# Altium footprint library con-phoenix-350.PCBLIB: 23 footprints (part 2 of 2)
Each footprint in its own frame and in the unit in brackets; x right, y up, seen from the top. Pads: shape width x height; smd on the part's side, far side on the other; paste and mask are expansions set on the pad; w line width, h text height; cw(c..) or ccw(c..) is an arc to the next point about the centre after c.
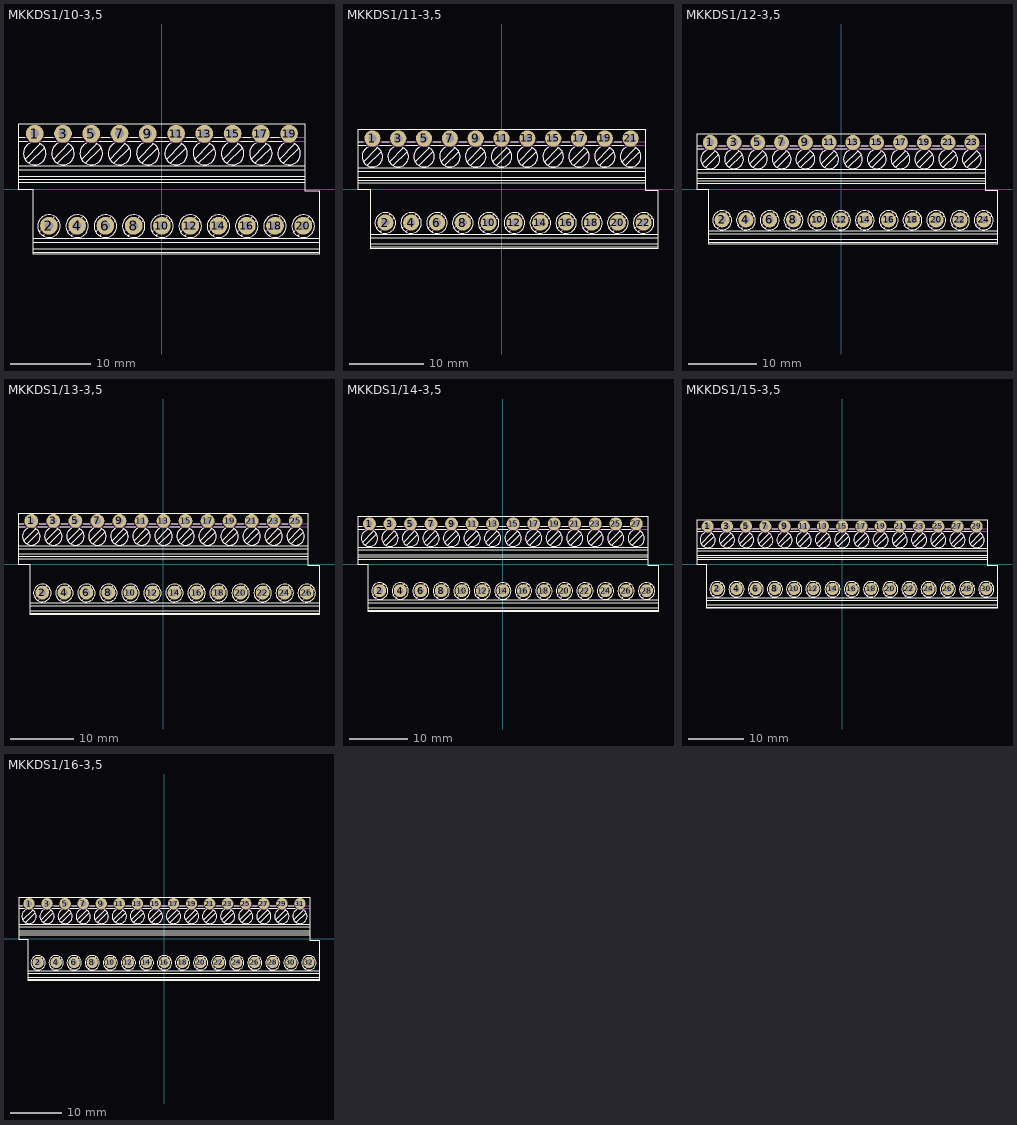
[diagram p1: the footprints below, top view; thin cyan lines are the x and y axes]

## MKKDS1/10-3,5 [mm]
pads (20):
  round 2.2 hole 1.1: 1(-15.75,6.85) 2(-14,-4.55) 3(-12.25,6.85) 4(-10.5,-4.55) 5(-8.75,6.85) 6(-7,-4.55) 7(-5.25,6.85) 8(-3.5,-4.55) 9(-1.75,6.85) 10(0,-4.55) 11(1.75,6.85) 12(3.5,-4.55) 13(5.25,6.85) 14(7,-4.55) 15(8.75,6.85) 16(10.5,-4.55) 17(12.25,6.85) 18(14,-4.55) 19(15.75,6.85) 20(17.5,-4.55)
Top Overlay:
  circle w0.102: c-14,-4.6 r1.401
  circle w0.102: c-10.5,-4.6 r1.401
  circle w0.102: c-7,-4.6 r1.401
  circle w0.102: c-3.5,-4.6 r1.401
  circle w0.102: c0,-4.6 r1.401
  circle w0.102: c3.5,-4.6 r1.401
  circle w0.102: c7,-4.6 r1.401
  circle w0.102: c10.5,-4.6 r1.401
  circle w0.102: c14,-4.6 r1.401
  circle w0.102: c17.5,-4.6 r1.401
  lines w0.102: -17.675,5.925 -16.675,5.925 ; -17.675,6.4 -16.975,6.4 ; -17.65,0.85 17.675,0.85 ; -17.65,1.15 17.675,1.15 ; -17.65,1.6 17.675,1.6 ; -17.65,2.4 17.675,2.4 ; -17.65,2.875 17.675,2.875 ; -16.925,3.7 -15.075,5.575 ; -16.425,3.225 -14.55,5.075 ; -16.325,5.675 ccw(c-15.752,4.398) -15.125,5.65 ; -15.9,-7.85 19.425,-7.85 ; -15.9,-7.425 19.425,-7.425 ; -15.9,-6.6 19.425,-6.6 ; -15.9,-6.125 19.425,-6.125 ; -15.175,-5.3 -15.075,-5.2 ; -14.75,5.925 -13.175,5.925 ; -14.675,-5.775 -14.575,-5.675 ; -14.5,6.4 -13.475,6.4 ; -13.425,3.7 -11.575,5.575 ; -13.4,-3.5 -13.325,-3.425 ; -12.925,3.225 -11.05,5.075 ; -12.875,-4 -12.8,-3.925 ; -12.825,5.675 ccw(c-12.252,4.399) -11.625,5.65 ; -11.675,-5.3 -11.575,-5.2 ; -11.25,5.925 -9.675,5.925 ; -11.175,-5.775 -11.075,-5.675 ; -11,6.4 -9.975,6.4 ; -9.925,3.7 -8.075,5.575 ; -9.9,-3.5 -9.825,-3.425 ; -9.425,3.225 -7.55,5.075 ; -9.375,-4 -9.3,-3.925 ; -9.325,5.675 ccw(c-8.752,4.398) -8.125,5.65 ; -8.175,-5.3 -8.075,-5.2 ; -7.75,5.925 -6.175,5.925 ; -7.675,-5.775 -7.575,-5.675 ; -7.5,6.4 -6.475,6.4 ; -6.425,3.7 -4.575,5.575 ; -6.4,-3.5 -6.325,-3.425 ; -5.925,3.225 -4.05,5.075 ; -5.875,-4 -5.8,-3.925 ; -5.825,5.675 ccw(c-5.252,4.399) -4.625,5.65 ; -4.675,-5.3 -4.575,-5.2 ; -4.25,5.925 -2.675,5.925 ; -4.175,-5.775 -4.075,-5.675 ; -4,6.4 -2.975,6.4 ; -2.925,3.7 -1.075,5.575 ; -2.9,-3.5 -2.825,-3.425 ; -2.425,3.225 -0.55,5.075 ; -2.375,-4 -2.3,-3.925 ; -2.325,5.675 ccw(c-1.752,4.398) -1.125,5.65 ; -1.175,-5.3 -1.075,-5.2 ; -0.75,5.925 0.825,5.925 ; -0.675,-5.775 -0.575,-5.675 ; -0.5,6.4 0.525,6.4 ; 0.575,3.7 2.425,5.575 ; 0.6,-3.5 0.675,-3.425 ; 1.075,3.225 2.95,5.075 ; 1.125,-4 1.2,-3.925 ; 1.175,5.675 ccw(c1.748,4.399) 2.375,5.65 ; 2.325,-5.3 2.425,-5.2 ; 2.75,5.925 4.325,5.925 ; 2.825,-5.775 2.925,-5.675 ; 3,6.4 4.025,6.4 ; 4.075,3.7 5.925,5.575 ; 4.1,-3.5 4.175,-3.425 ; 4.575,3.225 6.45,5.075 ; 4.625,-4 4.7,-3.925 ; 4.675,5.675 ccw(c5.249,4.399) 5.875,5.65 ; 5.825,-5.3 5.925,-5.2 ; 6.25,5.925 7.825,5.925 ; 6.325,-5.775 6.425,-5.675 ; 6.5,6.4 7.525,6.4 ; 7.575,3.7 9.425,5.575 ; 7.6,-3.5 7.675,-3.425 ; 8.075,3.225 9.95,5.075 ; 8.125,-4 8.2,-3.925 ; 8.175,5.675 ccw(c8.748,4.399) 9.375,5.65 ; 9.325,-5.3 9.425,-5.2 ; 9.75,5.925 11.325,5.925 ; 9.825,-5.775 9.925,-5.675 ; 10,6.4 11.025,6.4 ; 11.075,3.7 12.925,5.575 ; 11.1,-3.5 11.175,-3.425 ; 11.575,3.225 13.45,5.075 ; 11.625,-4 11.7,-3.925 ; 11.675,5.675 ccw(c12.249,4.399) 12.875,5.65 ; 12.825,-5.3 12.925,-5.2 ; 13.25,5.925 14.825,5.925 ; 13.325,-5.775 13.425,-5.675 ; 13.5,6.4 14.525,6.4 ; 14.575,3.7 16.425,5.575 ; 14.6,-3.5 14.675,-3.425 ; 15.075,3.225 16.95,5.075 ; 15.125,-4 15.2,-3.925 ; 15.175,5.675 ccw(c15.749,4.398) 16.375,5.65 ; 16.325,-5.3 16.425,-5.2 ; 16.825,-5.775 16.925,-5.675 ; 18.1,-3.5 18.175,-3.425 ; 18.625,-4 18.7,-3.925 ; -17.7,-0.1 -17.7,8.1 17.7,8.1 17.7,-0.2 19.45,-0.2 19.45,-8.1 -15.95,-8.1 -15.95,-0.1 -17.7,-0.1
Mechanical 16:
  circle w0.102: c-15.75,4.4 r1.401
  circle w0.102: c-12.25,4.4 r1.401
  circle w0.102: c-8.75,4.4 r1.401
  circle w0.102: c-5.25,4.4 r1.401
  circle w0.102: c-1.75,4.4 r1.401
  circle w0.102: c1.75,4.4 r1.401
  circle w0.102: c5.25,4.4 r1.401
  circle w0.102: c8.75,4.4 r1.401
  circle w0.102: c12.25,4.4 r1.401
  circle w0.102: c15.75,4.4 r1.401
  lines w0.102: -17.675,5.925 17.65,5.925 ; -17.675,6.4 17.65,6.4 ; -15.175,-5.3 -13.325,-3.425 ; -14.675,-5.775 -12.8,-3.925 ; -11.675,-5.3 -9.825,-3.425 ; -11.175,-5.775 -9.3,-3.925 ; -8.175,-5.3 -6.325,-3.425 ; -7.675,-5.775 -5.8,-3.925 ; -4.675,-5.3 -2.825,-3.425 ; -4.175,-5.775 -2.3,-3.925 ; -1.175,-5.3 0.675,-3.425 ; -0.675,-5.775 1.2,-3.925 ; 2.325,-5.3 4.175,-3.425 ; 2.825,-5.775 4.7,-3.925 ; 5.825,-5.3 7.675,-3.425 ; 6.325,-5.775 8.2,-3.925 ; 9.325,-5.3 11.175,-3.425 ; 9.825,-5.775 11.7,-3.925 ; 12.825,-5.3 14.675,-3.425 ; 13.325,-5.775 15.2,-3.925 ; 16.325,-5.3 18.175,-3.425 ; 16.825,-5.775 18.7,-3.925

## MKKDS1/11-3,5 [mm]
pads (22):
  round 2.2 hole 1.1: 1(-17.5,6.85) 2(-15.75,-4.55) 3(-14,6.85) 4(-12.25,-4.55) 5(-10.5,6.85) 6(-8.75,-4.55) 7(-7,6.85) 8(-5.25,-4.55) 9(-3.5,6.85) 10(-1.75,-4.55) 11(0,6.85) 12(1.75,-4.55) 13(3.5,6.85) 14(5.25,-4.55) 15(7,6.85) 16(8.75,-4.55) 17(10.5,6.85) 18(12.25,-4.55) 19(14,6.85) 20(15.75,-4.55) 21(17.5,6.85) 22(19.25,-4.55)
Top Overlay:
  circle w0.102: c-15.75,-4.6 r1.401
  circle w0.102: c-12.25,-4.6 r1.401
  circle w0.102: c-8.75,-4.6 r1.401
  circle w0.102: c-5.25,-4.6 r1.401
  circle w0.102: c-1.75,-4.6 r1.401
  circle w0.102: c1.75,-4.6 r1.401
  circle w0.102: c5.25,-4.6 r1.401
  circle w0.102: c8.75,-4.6 r1.401
  circle w0.102: c12.25,-4.6 r1.401
  circle w0.102: c15.75,-4.6 r1.401
  circle w0.102: c19.25,-4.6 r1.401
  lines w0.102: -19.425,5.925 -18.425,5.925 ; -19.425,6.4 -18.725,6.4 ; -19.4,0.85 19.425,0.85 ; -19.4,1.15 19.425,1.15 ; -19.4,1.6 19.425,1.6 ; -19.4,2.4 19.425,2.4 ; -19.4,2.875 19.425,2.875 ; -18.675,3.7 -16.825,5.575 ; -18.175,3.225 -16.3,5.075 ; -18.075,5.675 ccw(c-17.501,4.399) -16.875,5.65 ; -17.65,-7.85 21.175,-7.85 ; -17.65,-7.425 21.175,-7.425 ; -17.65,-6.6 21.175,-6.6 ; -17.65,-6.125 21.175,-6.125 ; -16.925,-5.3 -16.825,-5.2 ; -16.5,5.925 -14.925,5.925 ; -16.425,-5.775 -16.325,-5.675 ; -16.25,6.4 -15.225,6.4 ; -15.175,3.7 -13.325,5.575 ; -15.15,-3.5 -15.075,-3.425 ; -14.675,3.225 -12.8,5.075 ; -14.625,-4 -14.55,-3.925 ; -14.575,5.675 ccw(c-14.001,4.398) -13.375,5.65 ; -13.425,-5.3 -13.325,-5.2 ; -13,5.925 -11.425,5.925 ; -12.925,-5.775 -12.825,-5.675 ; -12.75,6.4 -11.725,6.4 ; -11.675,3.7 -9.825,5.575 ; -11.65,-3.5 -11.575,-3.425 ; -11.175,3.225 -9.3,5.075 ; -11.125,-4 -11.05,-3.925 ; -11.075,5.675 ccw(c-10.501,4.399) -9.875,5.65 ; -9.925,-5.3 -9.825,-5.2 ; -9.5,5.925 -7.925,5.925 ; -9.425,-5.775 -9.325,-5.675 ; -9.25,6.4 -8.225,6.4 ; -8.175,3.7 -6.325,5.575 ; -8.15,-3.5 -8.075,-3.425 ; -7.675,3.225 -5.8,5.075 ; -7.625,-4 -7.55,-3.925 ; -7.575,5.675 ccw(c-7.001,4.398) -6.375,5.65 ; -6.425,-5.3 -6.325,-5.2 ; -6,5.925 -4.425,5.925 ; -5.925,-5.775 -5.825,-5.675 ; -5.75,6.4 -4.725,6.4 ; -4.675,3.7 -2.825,5.575 ; -4.65,-3.5 -4.575,-3.425 ; -4.175,3.225 -2.3,5.075 ; -4.125,-4 -4.05,-3.925 ; -4.075,5.675 ccw(c-3.501,4.399) -2.875,5.65 ; -2.925,-5.3 -2.825,-5.2 ; -2.5,5.925 -0.925,5.925 ; -2.425,-5.775 -2.325,-5.675 ; -2.25,6.4 -1.225,6.4 ; -1.175,3.7 0.675,5.575 ; -1.15,-3.5 -1.075,-3.425 ; -0.675,3.225 1.2,5.075 ; -0.625,-4 -0.55,-3.925 ; -0.575,5.675 ccw(c-0.001,4.398) 0.625,5.65 ; 0.575,-5.3 0.675,-5.2 ; 1,5.925 2.575,5.925 ; 1.075,-5.775 1.175,-5.675 ; 1.25,6.4 2.275,6.4 ; 2.325,3.7 4.175,5.575 ; 2.35,-3.5 2.425,-3.425 ; 2.825,3.225 4.7,5.075 ; 2.875,-4 2.95,-3.925 ; 2.925,5.675 ccw(c3.499,4.399) 4.125,5.65 ; 4.075,-5.3 4.175,-5.2 ; 4.5,5.925 6.075,5.925 ; 4.575,-5.775 4.675,-5.675 ; 4.75,6.4 5.775,6.4 ; 5.825,3.7 7.675,5.575 ; 5.85,-3.5 5.925,-3.425 ; 6.325,3.225 8.2,5.075 ; 6.375,-4 6.45,-3.925 ; 6.425,5.675 ccw(c6.999,4.398) 7.625,5.65 ; 7.575,-5.3 7.675,-5.2 ; 8,5.925 9.575,5.925 ; 8.075,-5.775 8.175,-5.675 ; 8.25,6.4 9.275,6.4 ; 9.325,3.7 11.175,5.575 ; 9.35,-3.5 9.425,-3.425 ; 9.825,3.225 11.7,5.075 ; 9.875,-4 9.95,-3.925 ; 9.925,5.675 ccw(c10.499,4.399) 11.125,5.65 ; 11.075,-5.3 11.175,-5.2 ; 11.5,5.925 13.075,5.925 ; 11.575,-5.775 11.675,-5.675 ; 11.75,6.4 12.775,6.4 ; 12.825,3.7 14.675,5.575 ; 12.85,-3.5 12.925,-3.425 ; 13.325,3.225 15.2,5.075 ; 13.375,-4 13.45,-3.925 ; 13.425,5.675 ccw(c13.999,4.398) 14.625,5.65 ; 14.575,-5.3 14.675,-5.2 ; 15,5.925 16.575,5.925 ; 15.075,-5.775 15.175,-5.675 ; 15.25,6.4 16.275,6.4 ; 16.325,3.7 18.175,5.575 ; 16.35,-3.5 16.425,-3.425 ; 16.825,3.225 18.7,5.075 ; 16.875,-4 16.95,-3.925 ; 16.925,5.675 ccw(c17.498,4.399) 18.125,5.65 ; 18.075,-5.3 18.175,-5.2 ; 18.575,-5.775 18.675,-5.675 ; 19.85,-3.5 19.925,-3.425 ; 20.375,-4 20.45,-3.925 ; -19.45,-0.1 -19.45,8.1 19.45,8.1 19.45,-0.2 21.2,-0.2 21.2,-8.1 -17.7,-8.1 -17.7,-0.1 -19.45,-0.1
Mechanical 16:
  circle w0.102: c-17.5,4.4 r1.401
  circle w0.102: c-14,4.4 r1.401
  circle w0.102: c-10.5,4.4 r1.401
  circle w0.102: c-7,4.4 r1.401
  circle w0.102: c-3.5,4.4 r1.401
  circle w0.102: c0,4.4 r1.401
  circle w0.102: c3.5,4.4 r1.401
  circle w0.102: c7,4.4 r1.401
  circle w0.102: c10.5,4.4 r1.401
  circle w0.102: c14,4.4 r1.401
  circle w0.102: c17.5,4.4 r1.401
  lines w0.102: -19.425,5.925 19.4,5.925 ; -19.425,6.4 19.4,6.4 ; -16.925,-5.3 -15.075,-3.425 ; -16.425,-5.775 -14.55,-3.925 ; -13.425,-5.3 -11.575,-3.425 ; -12.925,-5.775 -11.05,-3.925 ; -9.925,-5.3 -8.075,-3.425 ; -9.425,-5.775 -7.55,-3.925 ; -6.425,-5.3 -4.575,-3.425 ; -5.925,-5.775 -4.05,-3.925 ; -2.925,-5.3 -1.075,-3.425 ; -2.425,-5.775 -0.55,-3.925 ; 0.575,-5.3 2.425,-3.425 ; 1.075,-5.775 2.95,-3.925 ; 4.075,-5.3 5.925,-3.425 ; 4.575,-5.775 6.45,-3.925 ; 7.575,-5.3 9.425,-3.425 ; 8.075,-5.775 9.95,-3.925 ; 11.075,-5.3 12.925,-3.425 ; 11.575,-5.775 13.45,-3.925 ; 14.575,-5.3 16.425,-3.425 ; 15.075,-5.775 16.95,-3.925 ; 18.075,-5.3 19.925,-3.425 ; 18.575,-5.775 20.45,-3.925

## MKKDS1/12-3,5 [mm]
pads (24):
  round 2.2 hole 1.1: 1(-19.25,6.85) 2(-17.5,-4.55) 3(-15.75,6.85) 4(-14,-4.55) 5(-12.25,6.85) 6(-10.5,-4.55) 7(-8.75,6.85) 8(-7,-4.55) 9(-5.25,6.85) 10(-3.5,-4.55) 11(-1.75,6.85) 12(0,-4.55) 13(1.75,6.85) 14(3.5,-4.55) 15(5.25,6.85) 16(7,-4.55) 17(8.75,6.85) 18(10.5,-4.55) 19(12.25,6.85) 20(14,-4.55) 21(15.75,6.85) 22(17.5,-4.55) 23(19.25,6.85) 24(21,-4.55)
Top Overlay:
  circle w0.102: c-17.5,-4.6 r1.401
  circle w0.102: c-14,-4.6 r1.401
  circle w0.102: c-10.5,-4.6 r1.401
  circle w0.102: c-7,-4.6 r1.401
  circle w0.102: c-3.5,-4.6 r1.401
  circle w0.102: c0,-4.6 r1.401
  circle w0.102: c3.5,-4.6 r1.401
  circle w0.102: c7,-4.6 r1.401
  circle w0.102: c10.5,-4.6 r1.401
  circle w0.102: c14,-4.6 r1.401
  circle w0.102: c17.5,-4.6 r1.401
  circle w0.102: c21,-4.6 r1.401
  lines w0.102: -21.175,5.925 -20.175,5.925 ; -21.175,6.4 -20.475,6.4 ; -21.15,0.85 21.175,0.85 ; -21.15,1.15 21.175,1.15 ; -21.15,1.6 21.175,1.6 ; -21.15,2.4 21.175,2.4 ; -21.15,2.875 21.175,2.875 ; -20.425,3.7 -18.575,5.575 ; -19.925,3.225 -18.05,5.075 ; -19.825,5.675 ccw(c-19.251,4.399) -18.625,5.65 ; -19.4,-7.85 22.925,-7.85 ; -19.4,-7.425 22.925,-7.425 ; -19.4,-6.6 22.925,-6.6 ; -19.4,-6.125 22.925,-6.125 ; -18.675,-5.3 -18.575,-5.2 ; -18.25,5.925 -16.675,5.925 ; -18.175,-5.775 -18.075,-5.675 ; -18,6.4 -16.975,6.4 ; -16.925,3.7 -15.075,5.575 ; -16.9,-3.5 -16.825,-3.425 ; -16.425,3.225 -14.55,5.075 ; -16.375,-4 -16.3,-3.925 ; -16.325,5.675 ccw(c-15.752,4.398) -15.125,5.65 ; -15.175,-5.3 -15.075,-5.2 ; -14.75,5.925 -13.175,5.925 ; -14.675,-5.775 -14.575,-5.675 ; -14.5,6.4 -13.475,6.4 ; -13.425,3.7 -11.575,5.575 ; -13.4,-3.5 -13.325,-3.425 ; -12.925,3.225 -11.05,5.075 ; -12.875,-4 -12.8,-3.925 ; -12.825,5.675 ccw(c-12.252,4.399) -11.625,5.65 ; -11.675,-5.3 -11.575,-5.2 ; -11.25,5.925 -9.675,5.925 ; -11.175,-5.775 -11.075,-5.675 ; -11,6.4 -9.975,6.4 ; -9.925,3.7 -8.075,5.575 ; -9.9,-3.5 -9.825,-3.425 ; -9.425,3.225 -7.55,5.075 ; -9.375,-4 -9.3,-3.925 ; -9.325,5.675 ccw(c-8.752,4.398) -8.125,5.65 ; -8.175,-5.3 -8.075,-5.2 ; -7.75,5.925 -6.175,5.925 ; -7.675,-5.775 -7.575,-5.675 ; -7.5,6.4 -6.475,6.4 ; -6.425,3.7 -4.575,5.575 ; -6.4,-3.5 -6.325,-3.425 ; -5.925,3.225 -4.05,5.075 ; -5.875,-4 -5.8,-3.925 ; -5.825,5.675 ccw(c-5.252,4.399) -4.625,5.65 ; -4.675,-5.3 -4.575,-5.2 ; -4.25,5.925 -2.675,5.925 ; -4.175,-5.775 -4.075,-5.675 ; -4,6.4 -2.975,6.4 ; -2.925,3.7 -1.075,5.575 ; -2.9,-3.5 -2.825,-3.425 ; -2.425,3.225 -0.55,5.075 ; -2.375,-4 -2.3,-3.925 ; -2.325,5.675 ccw(c-1.752,4.398) -1.125,5.65 ; -1.175,-5.3 -1.075,-5.2 ; -0.75,5.925 0.825,5.925 ; -0.675,-5.775 -0.575,-5.675 ; -0.5,6.4 0.525,6.4 ; 0.575,3.7 2.425,5.575 ; 0.6,-3.5 0.675,-3.425 ; 1.075,3.225 2.95,5.075 ; 1.125,-4 1.2,-3.925 ; 1.175,5.675 ccw(c1.748,4.399) 2.375,5.65 ; 2.325,-5.3 2.425,-5.2 ; 2.75,5.925 4.325,5.925 ; 2.825,-5.775 2.925,-5.675 ; 3,6.4 4.025,6.4 ; 4.075,3.7 5.925,5.575 ; 4.1,-3.5 4.175,-3.425 ; 4.575,3.225 6.45,5.075 ; 4.625,-4 4.7,-3.925 ; 4.675,5.675 ccw(c5.249,4.399) 5.875,5.65 ; 5.825,-5.3 5.925,-5.2 ; 6.25,5.925 7.825,5.925 ; 6.325,-5.775 6.425,-5.675 ; 6.5,6.4 7.525,6.4 ; 7.575,3.7 9.425,5.575 ; 7.6,-3.5 7.675,-3.425 ; 8.075,3.225 9.95,5.075 ; 8.125,-4 8.2,-3.925 ; 8.175,5.675 ccw(c8.748,4.399) 9.375,5.65 ; 9.325,-5.3 9.425,-5.2 ; 9.75,5.925 11.325,5.925 ; 9.825,-5.775 9.925,-5.675 ; 10,6.4 11.025,6.4 ; 11.075,3.7 12.925,5.575 ; 11.1,-3.5 11.175,-3.425 ; 11.575,3.225 13.45,5.075 ; 11.625,-4 11.7,-3.925 ; 11.675,5.675 ccw(c12.249,4.399) 12.875,5.65 ; 12.825,-5.3 12.925,-5.2 ; 13.25,5.925 14.825,5.925 ; 13.325,-5.775 13.425,-5.675 ; 13.5,6.4 14.525,6.4 ; 14.575,3.7 16.425,5.575 ; 14.6,-3.5 14.675,-3.425 ; 15.075,3.225 16.95,5.075 ; 15.125,-4 15.2,-3.925 ; 15.175,5.675 ccw(c15.749,4.398) 16.375,5.65 ; 16.325,-5.3 16.425,-5.2 ; 16.75,5.925 18.325,5.925 ; 16.825,-5.775 16.925,-5.675 ; 17,6.4 18.025,6.4 ; 18.075,3.7 19.925,5.575 ; 18.1,-3.5 18.175,-3.425 ; 18.575,3.225 20.45,5.075 ; 18.625,-4 18.7,-3.925 ; 18.675,5.675 ccw(c19.249,4.399) 19.875,5.65 ; 19.825,-5.3 19.925,-5.2 ; 20.325,-5.775 20.425,-5.675 ; 21.6,-3.5 21.675,-3.425 ; 22.125,-4 22.2,-3.925 ; -21.2,-0.1 -21.2,8.1 21.2,8.1 21.2,-0.2 22.95,-0.2 22.95,-8.1 -19.45,-8.1 -19.45,-0.1 -21.2,-0.1
Mechanical 16:
  circle w0.102: c-19.25,4.4 r1.401
  circle w0.102: c-15.75,4.4 r1.401
  circle w0.102: c-12.25,4.4 r1.401
  circle w0.102: c-8.75,4.4 r1.401
  circle w0.102: c-5.25,4.4 r1.401
  circle w0.102: c-1.75,4.4 r1.401
  circle w0.102: c1.75,4.4 r1.401
  circle w0.102: c5.25,4.4 r1.401
  circle w0.102: c8.75,4.4 r1.401
  circle w0.102: c12.25,4.4 r1.401
  circle w0.102: c15.75,4.4 r1.401
  circle w0.102: c19.25,4.4 r1.401
  lines w0.102: -21.175,5.925 21.15,5.925 ; -21.175,6.4 21.15,6.4 ; -18.675,-5.3 -16.825,-3.425 ; -18.175,-5.775 -16.3,-3.925 ; -15.175,-5.3 -13.325,-3.425 ; -14.675,-5.775 -12.8,-3.925 ; -11.675,-5.3 -9.825,-3.425 ; -11.175,-5.775 -9.3,-3.925 ; -8.175,-5.3 -6.325,-3.425 ; -7.675,-5.775 -5.8,-3.925 ; -4.675,-5.3 -2.825,-3.425 ; -4.175,-5.775 -2.3,-3.925 ; -1.175,-5.3 0.675,-3.425 ; -0.675,-5.775 1.2,-3.925 ; 2.325,-5.3 4.175,-3.425 ; 2.825,-5.775 4.7,-3.925 ; 5.825,-5.3 7.675,-3.425 ; 6.325,-5.775 8.2,-3.925 ; 9.325,-5.3 11.175,-3.425 ; 9.825,-5.775 11.7,-3.925 ; 12.825,-5.3 14.675,-3.425 ; 13.325,-5.775 15.2,-3.925 ; 16.325,-5.3 18.175,-3.425 ; 16.825,-5.775 18.7,-3.925 ; 19.825,-5.3 21.675,-3.425 ; 20.325,-5.775 22.2,-3.925

## MKKDS1/13-3,5 [mm]
pads (26):
  round 2.2 hole 1.1: 1(-21,6.85) 2(-19.25,-4.55) 3(-17.5,6.85) 4(-15.75,-4.55) 5(-14,6.85) 6(-12.25,-4.55) 7(-10.5,6.85) 8(-8.75,-4.55) 9(-7,6.85) 10(-5.25,-4.55) 11(-3.5,6.85) 12(-1.75,-4.55) 13(0,6.85) 14(1.75,-4.55) 15(3.5,6.85) 16(5.25,-4.55) 17(7,6.85) 18(8.75,-4.55) 19(10.5,6.85) 20(12.25,-4.55) 21(14,6.85) 22(15.75,-4.55) 23(17.5,6.85) 24(19.25,-4.55) 25(21,6.85) 26(22.75,-4.55)
Top Overlay:
  circle w0.102: c-19.25,-4.6 r1.401
  circle w0.102: c-15.75,-4.6 r1.401
  circle w0.102: c-12.25,-4.6 r1.401
  circle w0.102: c-8.75,-4.6 r1.401
  circle w0.102: c-5.25,-4.6 r1.401
  circle w0.102: c-1.75,-4.6 r1.401
  circle w0.102: c1.75,-4.6 r1.401
  circle w0.102: c5.25,-4.6 r1.401
  circle w0.102: c8.75,-4.6 r1.401
  circle w0.102: c12.25,-4.6 r1.401
  circle w0.102: c15.75,-4.6 r1.401
  circle w0.102: c19.25,-4.6 r1.401
  circle w0.102: c22.75,-4.6 r1.401
  lines w0.102: -22.925,5.925 -21.925,5.925 ; -22.925,6.4 -22.225,6.4 ; -22.9,0.85 22.925,0.85 ; -22.9,1.15 22.925,1.15 ; -22.9,1.6 22.925,1.6 ; -22.9,2.4 22.925,2.4 ; -22.9,2.875 22.925,2.875 ; -22.175,3.7 -20.325,5.575 ; -21.675,3.225 -19.8,5.075 ; -21.575,5.675 ccw(c-21.002,4.399) -20.375,5.65 ; -21.15,-7.85 24.675,-7.85 ; -21.15,-7.425 24.675,-7.425 ; -21.15,-6.6 24.675,-6.6 ; -21.15,-6.125 24.675,-6.125 ; -20.425,-5.3 -20.325,-5.2 ; -20,5.925 -18.425,5.925 ; -19.925,-5.775 -19.825,-5.675 ; -19.75,6.4 -18.725,6.4 ; -18.675,3.7 -16.825,5.575 ; -18.65,-3.5 -18.575,-3.425 ; -18.175,3.225 -16.3,5.075 ; -18.125,-4 -18.05,-3.925 ; -18.075,5.675 ccw(c-17.501,4.399) -16.875,5.65 ; -16.925,-5.3 -16.825,-5.2 ; -16.5,5.925 -14.925,5.925 ; -16.425,-5.775 -16.325,-5.675 ; -16.25,6.4 -15.225,6.4 ; -15.175,3.7 -13.325,5.575 ; -15.15,-3.5 -15.075,-3.425 ; -14.675,3.225 -12.8,5.075 ; -14.625,-4 -14.55,-3.925 ; -14.575,5.675 ccw(c-14.001,4.398) -13.375,5.65 ; -13.425,-5.3 -13.325,-5.2 ; -13,5.925 -11.425,5.925 ; -12.925,-5.775 -12.825,-5.675 ; -12.75,6.4 -11.725,6.4 ; -11.675,3.7 -9.825,5.575 ; -11.65,-3.5 -11.575,-3.425 ; -11.175,3.225 -9.3,5.075 ; -11.125,-4 -11.05,-3.925 ; -11.075,5.675 ccw(c-10.501,4.399) -9.875,5.65 ; -9.925,-5.3 -9.825,-5.2 ; -9.5,5.925 -7.925,5.925 ; -9.425,-5.775 -9.325,-5.675 ; -9.25,6.4 -8.225,6.4 ; -8.175,3.7 -6.325,5.575 ; -8.15,-3.5 -8.075,-3.425 ; -7.675,3.225 -5.8,5.075 ; -7.625,-4 -7.55,-3.925 ; -7.575,5.675 ccw(c-7.001,4.398) -6.375,5.65 ; -6.425,-5.3 -6.325,-5.2 ; -6,5.925 -4.425,5.925 ; -5.925,-5.775 -5.825,-5.675 ; -5.75,6.4 -4.725,6.4 ; -4.675,3.7 -2.825,5.575 ; -4.65,-3.5 -4.575,-3.425 ; -4.175,3.225 -2.3,5.075 ; -4.125,-4 -4.05,-3.925 ; -4.075,5.675 ccw(c-3.501,4.399) -2.875,5.65 ; -2.925,-5.3 -2.825,-5.2 ; -2.5,5.925 -0.925,5.925 ; -2.425,-5.775 -2.325,-5.675 ; -2.25,6.4 -1.225,6.4 ; -1.175,3.7 0.675,5.575 ; -1.15,-3.5 -1.075,-3.425 ; -0.675,3.225 1.2,5.075 ; -0.625,-4 -0.55,-3.925 ; -0.575,5.675 ccw(c-0.001,4.398) 0.625,5.65 ; 0.575,-5.3 0.675,-5.2 ; 1,5.925 2.575,5.925 ; 1.075,-5.775 1.175,-5.675 ; 1.25,6.4 2.275,6.4 ; 2.325,3.7 4.175,5.575 ; 2.35,-3.5 2.425,-3.425 ; 2.825,3.225 4.7,5.075 ; 2.875,-4 2.95,-3.925 ; 2.925,5.675 ccw(c3.499,4.399) 4.125,5.65 ; 4.075,-5.3 4.175,-5.2 ; 4.5,5.925 6.075,5.925 ; 4.575,-5.775 4.675,-5.675 ; 4.75,6.4 5.775,6.4 ; 5.825,3.7 7.675,5.575 ; 5.85,-3.5 5.925,-3.425 ; 6.325,3.225 8.2,5.075 ; 6.375,-4 6.45,-3.925 ; 6.425,5.675 ccw(c6.999,4.398) 7.625,5.65 ; 7.575,-5.3 7.675,-5.2 ; 8,5.925 9.575,5.925 ; 8.075,-5.775 8.175,-5.675 ; 8.25,6.4 9.275,6.4 ; 9.325,3.7 11.175,5.575 ; 9.35,-3.5 9.425,-3.425 ; 9.825,3.225 11.7,5.075 ; 9.875,-4 9.95,-3.925 ; 9.925,5.675 ccw(c10.499,4.399) 11.125,5.65 ; 11.075,-5.3 11.175,-5.2 ; 11.5,5.925 13.075,5.925 ; 11.575,-5.775 11.675,-5.675 ; 11.75,6.4 12.775,6.4 ; 12.825,3.7 14.675,5.575 ; 12.85,-3.5 12.925,-3.425 ; 13.325,3.225 15.2,5.075 ; 13.375,-4 13.45,-3.925 ; 13.425,5.675 ccw(c13.999,4.398) 14.625,5.65 ; 14.575,-5.3 14.675,-5.2 ; 15,5.925 16.575,5.925 ; 15.075,-5.775 15.175,-5.675 ; 15.25,6.4 16.275,6.4 ; 16.325,3.7 18.175,5.575 ; 16.35,-3.5 16.425,-3.425 ; 16.825,3.225 18.7,5.075 ; 16.875,-4 16.95,-3.925 ; 16.925,5.675 ccw(c17.498,4.399) 18.125,5.65 ; 18.075,-5.3 18.175,-5.2 ; 18.5,5.925 20.075,5.925 ; 18.575,-5.775 18.675,-5.675 ; 18.75,6.4 19.775,6.4 ; 19.825,3.7 21.675,5.575 ; 19.85,-3.5 19.925,-3.425 ; 20.325,3.225 22.2,5.075 ; 20.375,-4 20.45,-3.925 ; 20.425,5.675 ccw(c20.998,4.398) 21.625,5.65 ; 21.575,-5.3 21.675,-5.2 ; 22.075,-5.775 22.175,-5.675 ; 23.35,-3.5 23.425,-3.425 ; 23.875,-4 23.95,-3.925 ; -22.95,-0.1 -22.95,8.1 22.95,8.1 22.95,-0.2 24.7,-0.2 24.7,-8.1 -21.2,-8.1 -21.2,-0.1 -22.95,-0.1
Mechanical 16:
  circle w0.102: c-21,4.4 r1.401
  circle w0.102: c-17.5,4.4 r1.401
  circle w0.102: c-14,4.4 r1.401
  circle w0.102: c-10.5,4.4 r1.401
  circle w0.102: c-7,4.4 r1.401
  circle w0.102: c-3.5,4.4 r1.401
  circle w0.102: c0,4.4 r1.401
  circle w0.102: c3.5,4.4 r1.401
  circle w0.102: c7,4.4 r1.401
  circle w0.102: c10.5,4.4 r1.401
  circle w0.102: c14,4.4 r1.401
  circle w0.102: c17.5,4.4 r1.401
  circle w0.102: c21,4.4 r1.401
  lines w0.102: -22.925,5.925 22.9,5.925 ; -22.925,6.4 22.9,6.4 ; -20.425,-5.3 -18.575,-3.425 ; -19.925,-5.775 -18.05,-3.925 ; -16.925,-5.3 -15.075,-3.425 ; -16.425,-5.775 -14.55,-3.925 ; -13.425,-5.3 -11.575,-3.425 ; -12.925,-5.775 -11.05,-3.925 ; -9.925,-5.3 -8.075,-3.425 ; -9.425,-5.775 -7.55,-3.925 ; -6.425,-5.3 -4.575,-3.425 ; -5.925,-5.775 -4.05,-3.925 ; -2.925,-5.3 -1.075,-3.425 ; -2.425,-5.775 -0.55,-3.925 ; 0.575,-5.3 2.425,-3.425 ; 1.075,-5.775 2.95,-3.925 ; 4.075,-5.3 5.925,-3.425 ; 4.575,-5.775 6.45,-3.925 ; 7.575,-5.3 9.425,-3.425 ; 8.075,-5.775 9.95,-3.925 ; 11.075,-5.3 12.925,-3.425 ; 11.575,-5.775 13.45,-3.925 ; 14.575,-5.3 16.425,-3.425 ; 15.075,-5.775 16.95,-3.925 ; 18.075,-5.3 19.925,-3.425 ; 18.575,-5.775 20.45,-3.925 ; 21.575,-5.3 23.425,-3.425 ; 22.075,-5.775 23.95,-3.925

## MKKDS1/14-3,5 [mm]
pads (28):
  round 2.2 hole 1.1: 1(-22.75,6.85) 2(-21,-4.55) 3(-19.25,6.85) 4(-17.5,-4.55) 5(-15.75,6.85) 6(-14,-4.55) 7(-12.25,6.85) 8(-10.5,-4.55) 9(-8.75,6.85) 10(-7,-4.55) 11(-5.25,6.85) 12(-3.5,-4.55) 13(-1.75,6.85) 14(0,-4.55) 15(1.75,6.85) 16(3.5,-4.55) 17(5.25,6.85) 18(7,-4.55) 19(8.75,6.85) 20(10.5,-4.55) 21(12.25,6.85) 22(14,-4.55) 23(15.75,6.85) 24(17.5,-4.55) 25(19.25,6.85) 26(21,-4.55) 27(22.75,6.85) 28(24.5,-4.55)
Top Overlay:
  drawing of 157 lines, arcs and shapes, not listed
Mechanical 16:
  circle w0.102: c-22.75,4.4 r1.401
  circle w0.102: c-19.25,4.4 r1.401
  circle w0.102: c-15.75,4.4 r1.401
  circle w0.102: c-12.25,4.4 r1.401
  circle w0.102: c-8.75,4.4 r1.401
  circle w0.102: c-5.25,4.4 r1.401
  circle w0.102: c-1.75,4.4 r1.401
  circle w0.102: c1.75,4.4 r1.401
  circle w0.102: c5.25,4.4 r1.401
  circle w0.102: c8.75,4.4 r1.401
  circle w0.102: c12.25,4.4 r1.401
  circle w0.102: c15.75,4.4 r1.401
  circle w0.102: c19.25,4.4 r1.401
  circle w0.102: c22.75,4.4 r1.401
  lines w0.102: -24.675,5.925 24.65,5.925 ; -24.675,6.4 24.65,6.4 ; -22.175,-5.3 -20.325,-3.425 ; -21.675,-5.775 -19.8,-3.925 ; -18.675,-5.3 -16.825,-3.425 ; -18.175,-5.775 -16.3,-3.925 ; -15.175,-5.3 -13.325,-3.425 ; -14.675,-5.775 -12.8,-3.925 ; -11.675,-5.3 -9.825,-3.425 ; -11.175,-5.775 -9.3,-3.925 ; -8.175,-5.3 -6.325,-3.425 ; -7.675,-5.775 -5.8,-3.925 ; -4.675,-5.3 -2.825,-3.425 ; -4.175,-5.775 -2.3,-3.925 ; -1.175,-5.3 0.675,-3.425 ; -0.675,-5.775 1.2,-3.925 ; 2.325,-5.3 4.175,-3.425 ; 2.825,-5.775 4.7,-3.925 ; 5.825,-5.3 7.675,-3.425 ; 6.325,-5.775 8.2,-3.925 ; 9.325,-5.3 11.175,-3.425 ; 9.825,-5.775 11.7,-3.925 ; 12.825,-5.3 14.675,-3.425 ; 13.325,-5.775 15.2,-3.925 ; 16.325,-5.3 18.175,-3.425 ; 16.825,-5.775 18.7,-3.925 ; 19.825,-5.3 21.675,-3.425 ; 20.325,-5.775 22.2,-3.925 ; 23.325,-5.3 25.175,-3.425 ; 23.825,-5.775 25.7,-3.925

## MKKDS1/15-3,5 [mm]
pads (30):
  round 2.2 hole 1.1: 1(-24.5,6.85) 2(-22.75,-4.55) 3(-21,6.85) 4(-19.25,-4.55) 5(-17.5,6.85) 6(-15.75,-4.55) 7(-14,6.85) 8(-12.25,-4.55) 9(-10.5,6.85) 10(-8.75,-4.55) 11(-7,6.85) 12(-5.25,-4.55) 13(-3.5,6.85) 14(-1.75,-4.55) 15(0,6.85) 16(1.75,-4.55) 17(3.5,6.85) 18(5.25,-4.55) 19(7,6.85) 20(8.75,-4.55) 21(10.5,6.85) 22(12.25,-4.55) 23(14,6.85) 24(15.75,-4.55) 25(17.5,6.85) 26(19.25,-4.55) 27(21,6.85) 28(22.75,-4.55) 29(24.5,6.85) 30(26.25,-4.55)
Top Overlay:
  drawing of 167 lines, arcs and shapes, not listed
Mechanical 16:
  circle w0.102: c-24.5,4.4 r1.401
  circle w0.102: c-21,4.4 r1.401
  circle w0.102: c-17.5,4.4 r1.401
  circle w0.102: c-14,4.4 r1.401
  circle w0.102: c-10.5,4.4 r1.401
  circle w0.102: c-7,4.4 r1.401
  circle w0.102: c-3.5,4.4 r1.401
  circle w0.102: c0,4.4 r1.401
  circle w0.102: c3.5,4.4 r1.401
  circle w0.102: c7,4.4 r1.401
  circle w0.102: c10.5,4.4 r1.401
  circle w0.102: c14,4.4 r1.401
  circle w0.102: c17.5,4.4 r1.401
  circle w0.102: c21,4.4 r1.401
  circle w0.102: c24.5,4.4 r1.401
  lines w0.102: -26.425,5.925 26.4,5.925 ; -26.425,6.4 26.4,6.4 ; -23.925,-5.3 -22.075,-3.425 ; -23.425,-5.775 -21.55,-3.925 ; -20.425,-5.3 -18.575,-3.425 ; -19.925,-5.775 -18.05,-3.925 ; -16.925,-5.3 -15.075,-3.425 ; -16.425,-5.775 -14.55,-3.925 ; -13.425,-5.3 -11.575,-3.425 ; -12.925,-5.775 -11.05,-3.925 ; -9.925,-5.3 -8.075,-3.425 ; -9.425,-5.775 -7.55,-3.925 ; -6.425,-5.3 -4.575,-3.425 ; -5.925,-5.775 -4.05,-3.925 ; -2.925,-5.3 -1.075,-3.425 ; -2.425,-5.775 -0.55,-3.925 ; 0.575,-5.3 2.425,-3.425 ; 1.075,-5.775 2.95,-3.925 ; 4.075,-5.3 5.925,-3.425 ; 4.575,-5.775 6.45,-3.925 ; 7.575,-5.3 9.425,-3.425 ; 8.075,-5.775 9.95,-3.925 ; 11.075,-5.3 12.925,-3.425 ; 11.575,-5.775 13.45,-3.925 ; 14.575,-5.3 16.425,-3.425 ; 15.075,-5.775 16.95,-3.925 ; 18.075,-5.3 19.925,-3.425 ; 18.575,-5.775 20.45,-3.925 ; 21.575,-5.3 23.425,-3.425 ; 22.075,-5.775 23.95,-3.925 ; 25.075,-5.3 26.925,-3.425 ; 25.575,-5.775 27.45,-3.925

## MKKDS1/16-3,5 [mm]
pads (32):
  round 2.2 hole 1.1: 1(-26.25,6.85) 2(-24.5,-4.55) 3(-22.75,6.85) 4(-21,-4.55) 5(-19.25,6.85) 6(-17.5,-4.55) 7(-15.75,6.85) 8(-14,-4.55) 9(-12.25,6.85) 10(-10.5,-4.55) 11(-8.75,6.85) 12(-7,-4.55) 13(-5.25,6.85) 14(-3.5,-4.55) 15(-1.75,6.85) 16(0,-4.55) 17(1.75,6.85) 18(3.5,-4.55) 19(5.25,6.85) 20(7,-4.55) 21(8.75,6.85) 22(10.5,-4.55) 23(12.25,6.85) 24(14,-4.55) 25(15.75,6.85) 26(17.5,-4.55) 27(19.25,6.85) 28(21,-4.55) 29(22.75,6.85) 30(24.5,-4.55) 31(26.25,6.85) 32(28,-4.55)
Top Overlay:
  drawing of 177 lines, arcs and shapes, not listed
Mechanical 16:
  circle w0.102: c-26.25,4.4 r1.401
  circle w0.102: c-22.75,4.4 r1.401
  circle w0.102: c-19.25,4.4 r1.401
  circle w0.102: c-15.75,4.4 r1.401
  circle w0.102: c-12.25,4.4 r1.401
  circle w0.102: c-8.75,4.4 r1.401
  circle w0.102: c-5.25,4.4 r1.401
  circle w0.102: c-1.75,4.4 r1.401
  circle w0.102: c1.75,4.4 r1.401
  circle w0.102: c5.25,4.4 r1.401
  circle w0.102: c8.75,4.4 r1.401
  circle w0.102: c12.25,4.4 r1.401
  circle w0.102: c15.75,4.4 r1.401
  circle w0.102: c19.25,4.4 r1.401
  circle w0.102: c22.75,4.4 r1.401
  circle w0.102: c26.25,4.4 r1.401
  lines w0.102: -28.175,5.925 28.15,5.925 ; -28.175,6.4 28.15,6.4 ; -25.675,-5.3 -23.825,-3.425 ; -25.175,-5.775 -23.3,-3.925 ; -22.175,-5.3 -20.325,-3.425 ; -21.675,-5.775 -19.8,-3.925 ; -18.675,-5.3 -16.825,-3.425 ; -18.175,-5.775 -16.3,-3.925 ; -15.175,-5.3 -13.325,-3.425 ; -14.675,-5.775 -12.8,-3.925 ; -11.675,-5.3 -9.825,-3.425 ; -11.175,-5.775 -9.3,-3.925 ; -8.175,-5.3 -6.325,-3.425 ; -7.675,-5.775 -5.8,-3.925 ; -4.675,-5.3 -2.825,-3.425 ; -4.175,-5.775 -2.3,-3.925 ; -1.175,-5.3 0.675,-3.425 ; -0.675,-5.775 1.2,-3.925 ; 2.325,-5.3 4.175,-3.425 ; 2.825,-5.775 4.7,-3.925 ; 5.825,-5.3 7.675,-3.425 ; 6.325,-5.775 8.2,-3.925 ; 9.325,-5.3 11.175,-3.425 ; 9.825,-5.775 11.7,-3.925 ; 12.825,-5.3 14.675,-3.425 ; 13.325,-5.775 15.2,-3.925 ; 16.325,-5.3 18.175,-3.425 ; 16.825,-5.775 18.7,-3.925 ; 19.825,-5.3 21.675,-3.425 ; 20.325,-5.775 22.2,-3.925 ; 23.325,-5.3 25.175,-3.425 ; 23.825,-5.775 25.7,-3.925 ; 26.825,-5.3 28.675,-3.425 ; 27.325,-5.775 29.2,-3.925